# Altium footprint library PFC_Interleaved_V8.1.PcbLib: 67 footprints (part 5 of 5)
Each footprint in its own frame and in the unit in brackets; x right, y up, seen from the top. Pads: shape width x height; smd on the part's side, far side on the other; paste and mask are expansions set on the pad; w line width, h text height; cw(c..) or ccw(c..) is an arc to the next point about the centre after c.
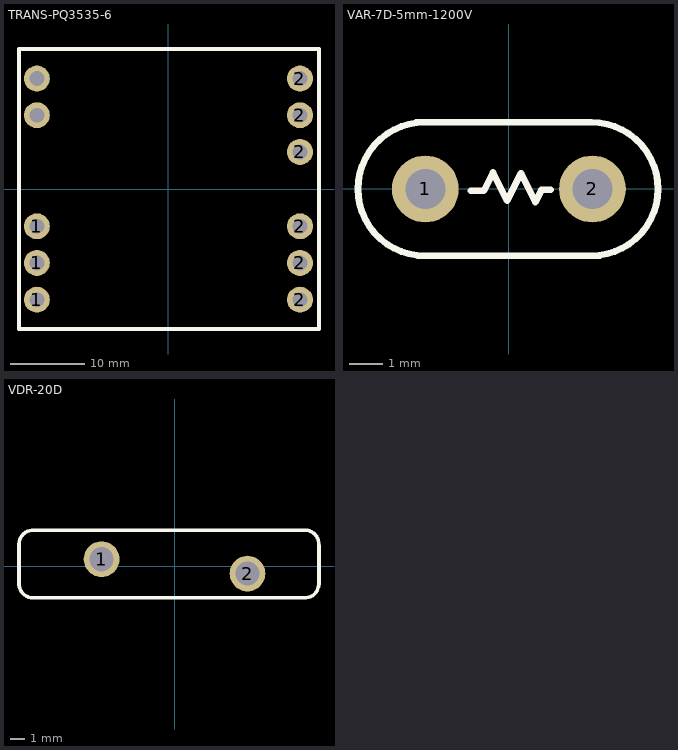
[diagram p4: the footprints below, top view; thin cyan lines are the x and y axes]

## TRANS-PQ3535-6 [mm]
pads (11):
  round 3.5 hole 2: 1(-17.755,-14.922) 1(-17.755,-9.97) 1(-17.755,-5.016) 2(17.755,-14.922) 2(17.755,-9.97) 2(17.755,-5.016) 2(17.755,5.016) 2(17.755,9.97) 2(17.755,14.922) ""(-17.755,9.97) ""(-17.755,14.922)
Top Overlay:
  lines w0.5: -20.168,-18.885 -20.168,18.91 20.32,18.91 20.32,-18.885 -20.168,-18.885
3D body "PQ3535.STEP": height 41.8, standoff -3, extent -19.526,-18.287 19.474,18.313

## VAR-7D-5mm-1200V [mm]
pads (2):
  round 2 hole 1.2: 1(-2.5,0) 2(2.5,0)
Top Overlay:
  lines w0.2: -2.769,2 2.464,2 cw(c2.464,0) 2.464,-2 ; -2.718,-2 2.718,-2 ; -2.515,-2 cw(c-2.515,0) -2.515,2 ; -1.143,-0.051 -0.749,-0.051 -0.476,0.495 -0.051,-0.356 0.362,0.47 0.794,-0.394 0.978,-0.025 1.245,-0.025
3D body: height 2, standoff -2, extent -2.815,-0.317 -2.182,0.317
3D body: height 9.5, standoff 0.5, extent -4.575,-1.676 4.423,1.923
3D body: height 2, standoff -2, extent 2.185,-0.317 2.818,0.317

## VDR-20D [mm]
pads (2):
  round 2.5 hole 1.7: 1(-5.1,0.5) 2(5.1,-0.5)
Top Overlay:
  lines w0.254: -10.872,1.556 cw(c-9.889,1.548) -9.813,2.527 7.586,2.527 ; -10.868,1.556 -10.868,-1.137 ccw(c-9.889,-1.214) -9.896,-2.196 8.221,-2.196 ; 9.054,-2.195 ccw(c9.128,-1.251) 10.075,-1.258 ; 9.137,2.527 cw(c9.13,1.58) 10.074,1.506 ; 10.097,-1.232 10.097,1.464 ; 7.586,2.527 9.13,2.527 7.586,2.527 ; 8.221,-2.196 9.041,-2.196 8.221,-2.196 ; 9.042,-2.196 9.054,-2.197 9.042,-2.196
3D body "User Library-Varistor_20mm.STEP": height 27.5, standoff 0.01, extent -11.08,-2.794 10.42,3.004